# Altium schematic symbol library dcdc.SchLib: 8 symbols
Pins are listed as number, name and electrical type; pins without a type are passive.

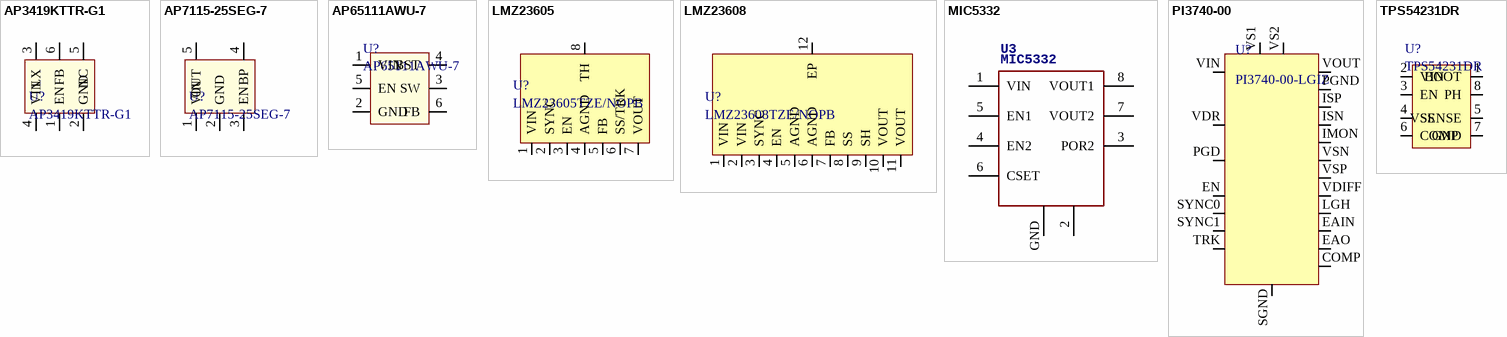
[diagram p0: symbols AP3419KTTR-G1 to TPS54231DR]

## AP3419KTTR-G1
designator U?
IC REG BUCK ADJUSTABLE 2A TSOT26; Manufacturer 1: Diodes Incorporated; Manufacturer Part Number 1: AP3419KTTR-G1; Supplier 1: Digi-Key; Supplier Part Number 1: AP3419KTTR-G1DICT-ND
footprint SOT-23-6
pins: 1 EN, 2 GND, 3 LX, 4 VIN, 5 NC, 6 FB

## AP7115-25SEG-7
designator U?
IC REG LINEAR 2.5V 150MA SOT353; Manufacturer 1: Diodes Incorporated; Manufacturer Part Number 1: AP7115-25SEG-7; Supplier 1: Digi-Key; Supplier Part Number 1: AP7115-25SEGDICT-ND
footprint SOT-353
pins: 1 VIN, 2 GND, 3 EN, 4 BP, 5 OUT

## AP65111AWU-7
designator U?
IC REG BUCK ADJ 1.5A TSOT26; Manufacturer 1: Diodes Incorporated; Manufacturer Part Number 1: AP65111AWU-7; Supplier 1: Digi-Key; Supplier Part Number 1: AP65111AWU-7DICT-ND
footprint SOT-23-6
pins: 1 VIN, 2 GND, 3 SW, 4 BST, 5 EN, 6 FB

## LMZ23605
designator U?, comment LMZ23605TZE/NOPB
Non-Isolated PoL Module DC DC Converter 1 Output 0.8 ~ 6V 5A 6V - 36V Input; Manufacturer 1: Texas Instruments; Manufacturer Part Number 1: LMZ23605TZE/NOPB; Supplier Part Number 1: 296-35357-1-ND; Supplier 1: Digi-Key
footprint LMZ23605
pins: 1 VIN, 2 SYNC, 3 EN, 4 AGND, 5 FB, 6 SS/TRK, 7 VOUT, 8 TH

## LMZ23608
designator U?, comment LMZ23608TZE/NOPB
Non-Isolated PoL Module DC DC Converter 1 Output 0.8 ~ 6V 8A 6V - 36V Input; Manufacturer 1: Texas Instruments; Manufacturer Part Number 1: LMZ23608TZE/NOPB; Supplier Part Number 1: 296-40333-1-ND; Supplier 1: Digi-Key
footprint LMZ23608
pins: 1 VIN, 2 VIN, 3 SYNC, 4 EN, 5 AGND, 6 AGND, 7 FB, 8 SS, 9 SH, 10 VOUT, 11 VOUT, 12 EP

## MIC5332
designator U3
IC REG LDO 3.3V 0.3A 8TMLF; Manufacturer 1: Microchip Technology; Manufacturer Part Number 1: MIC5332-SSYMT-TR; Supplier Part Number 1: 576-4110-1-ND; Supplier 1: Digi-Key
footprint 8-UFDFN
pins: 1 VIN, 2 GND (power), 3 POR2, 4 EN2, 5 EN1, 6 CSET, 7 VOUT2, 8 VOUT1, GND (power)

## PI3740-00
designator U?, comment PI3740-00-LGIZ
Non-Isolated PoL Module DC DC Converter 1 Output 10 ~ 50V 6.5A 8V - 60V Input; Manufacturer 1: Vicor Corporation; Manufacturer Part Number 1: PI3740-00-LGIZ; Supplier 1: Digi-Key; Supplier Part Number 1: 1102-5535-ND
footprint PI3740-00-LGIZ
pins: COMP, EAIN, EAO, EN, IMON, ISN, ISP, LGH, PGD, PGND, SGND, SYNC0, SYNC1, TRK, VDIFF, VDR, VIN, VOUT, VS1, VS2, VSN, VSP

## TPS54231DR
designator U?
IC REG BUCK ADJUSTABLE 2A 8SOIC; Manufacturer 1: Texas Instruments; Manufacturer Part Number 1: TPS54231DR; Supplier 1: Digi-Key; Supplier Part Number 1: 296-23844-1-ND
footprint SOIC-8
pins: 1 BOOT, 2 VIN, 3 EN, 4 SS, 5 VSENSE, 6 COMP, 7 GND, 8 PH